# Altium integrated library L1.IntLib: 92 symbols
Pins are listed as number, name and electrical type; pins without a type are passive.

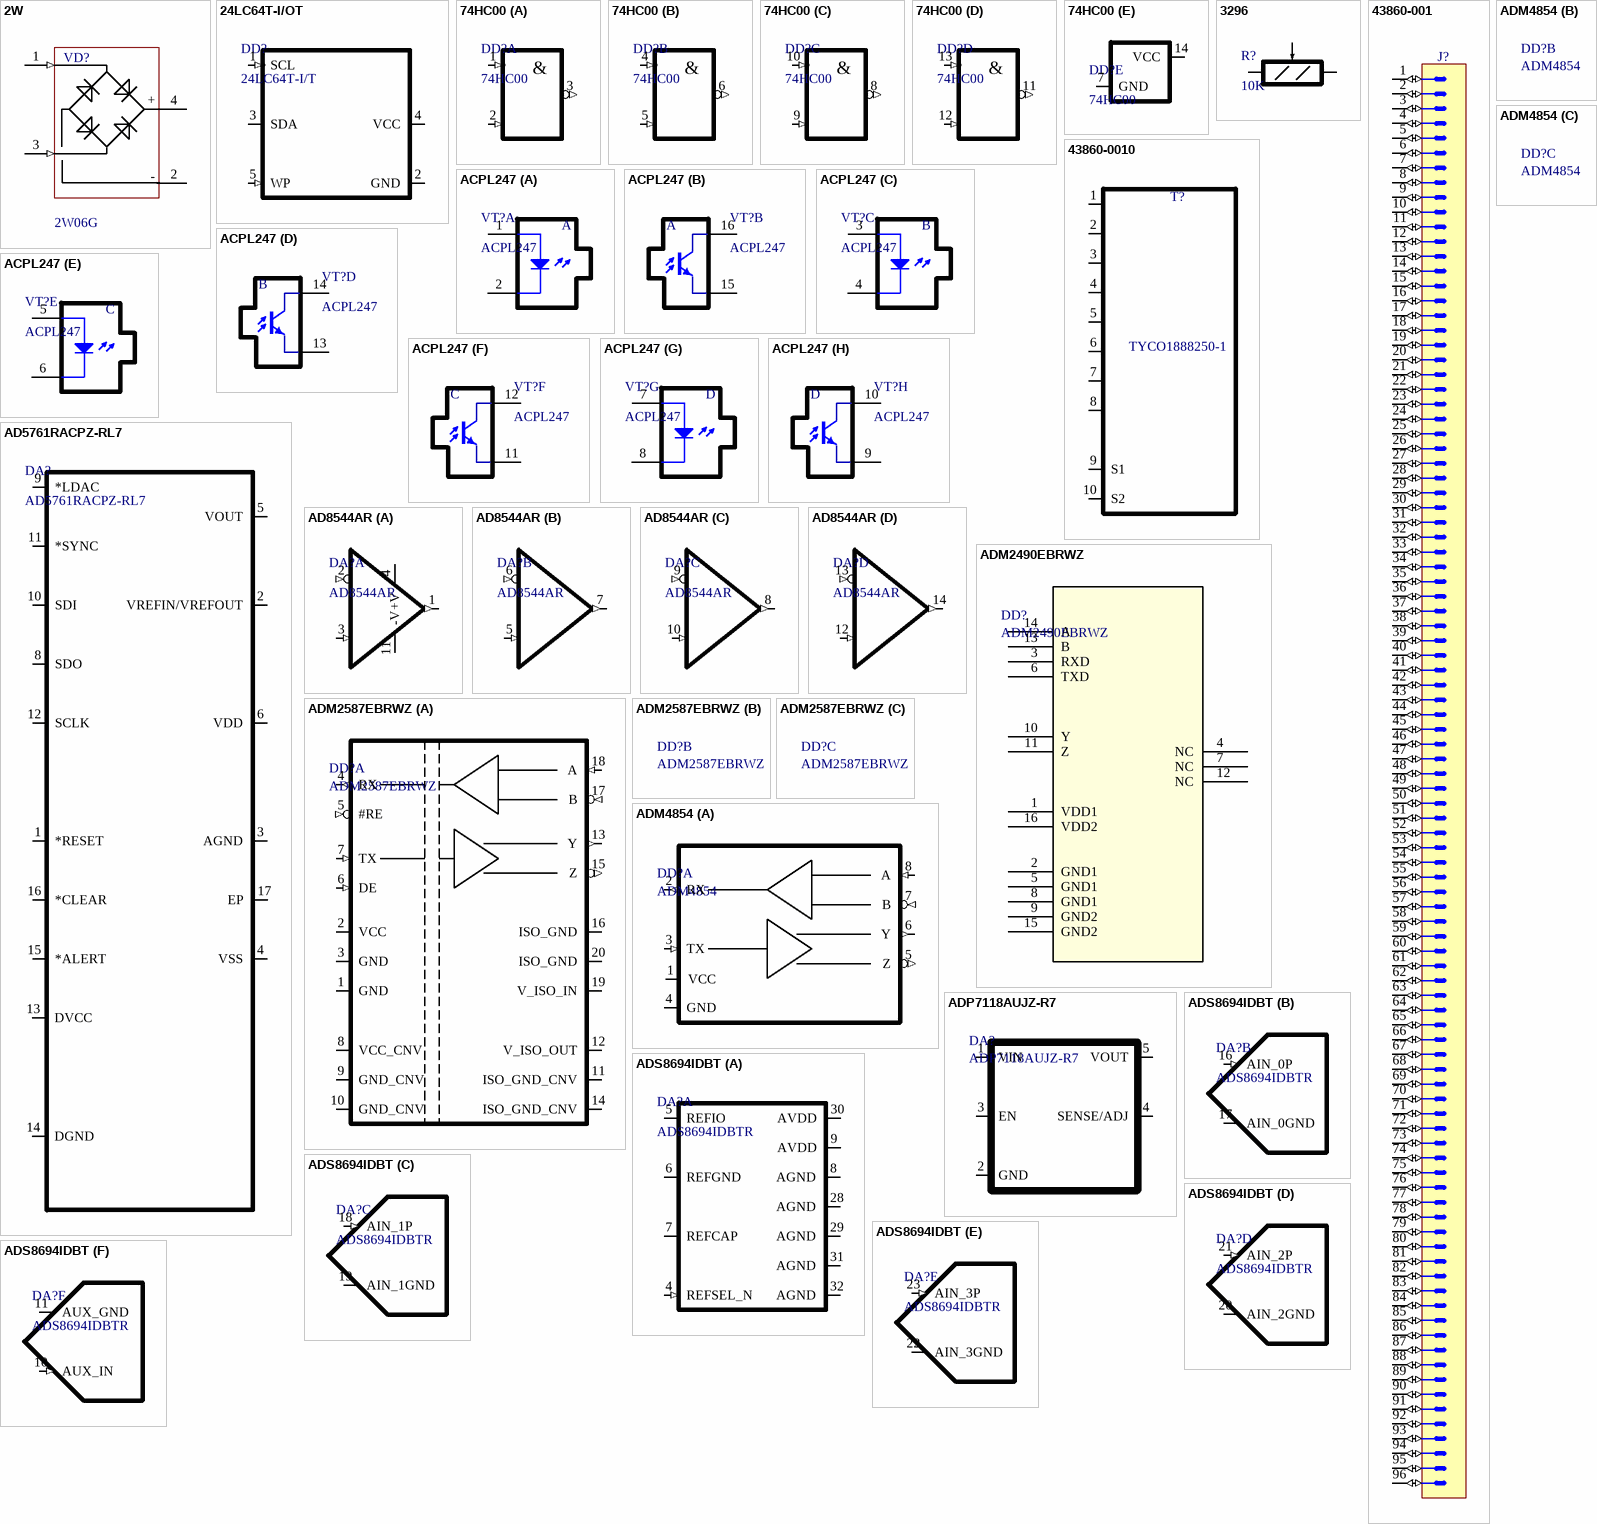
[diagram p0: symbols 2W to ADS8694IDBT]

## 2W
designator VD?, comment 2W06G
2Amp. Bridge Rectifier; Device: 2W; Vendor: Vishay; Value: 06G; Package: Spec DIP4; UnitPrice: 0,2
footprint DIP_4-500 (mmmm pitch 4pin rectifier bridge)
pins: 1 AC (in), 2 - (power), 3 AC (in), 4 + (power)

## 24LC64T-I/OT
designator DD?, comment 24LC64T-I/T
I2C EEPROM 64kbit; Vendor: Microchip; Package: SOT23-5; Unit Price: 1; Device: 24LC64T-I/T
footprint SOT23_5-095 (SOT, 0.95mm pitch; 5 pin, 1.60mm W X 2.90mm L X 1.45mm H body, IPC Medium Density)
pins: 1 SCL (in) "i2c CLK", 2 GND (power), 3 SDA (io) "i2C data", 4 VCC (power) "Digital output", 5 WP (in) "Write protect"

## 74HC00
designator DD?
Quad 2 inverted AND; Vendor: NXP; Package: SOIC14; Unit Price: 0.2; Device: 74HC00
footprint SOIC_14-127 (SOIC 14, Pitch 1.27mm - Body 4x8.75mm, IPC Medium Density)
part A pins: 1 in1 (in) "Digital input", 2 in2 (in) "Input", 3 OUT (out) "Inverted AND output"
part B pins: 4 in1 (in) "Digital input", 5 in2 (in) "Input", 6 OUT (out) "Inverted AND output"
part C pins: 8 OUT (out) "Inverted AND output", 9 in2 (in) "Input", 10 in1 (in) "Digital input"
part D pins: 11 OUT (out) "Inverted AND output", 12 in2 (in) "Input", 13 in1 (in) "Digital input"
part E pins: 7 GND (power), 14 VCC (power)
part A text: &
part B text: &
part C text: &
part D text: &

## 3296
designator R?, comment 10K
Trimm Resistor; Vendor: BOURNS; Unit Price: 0.2; Package: Special Trimm3296; Value: 10K
footprint TRIM_BOURNS_3296Y (Trimming Potentiometer BOURNS 3296Y Series)
pins: 1 "Any pin", 2 "Any pin", 3 "Any pin"

## 43860-001
designator J?
Connector 96 Male
pins: 1 (io), 2 (io), 3 (io), 4 (io), 5 (io), 6 (io), 7 (io), 8 (io), 9 (io), 10 (io), 11 (io), 12 (io), 13 (io), 14 (io), 15 (io), 16 (io), 17 (io), 18 (io), 19 (io), 20 (io), 21 (io), 22 (io), 23 (io), 24 (io), 25 (io), 26 (io), 27 (io), 28 (io), 29 (io), 30 (io), 31 (io), 32 (io), 33 (io), 34 (io), 35 (io), 36 (io), 37 (io), 38 (io), 39 (io), 40 (io), 41 (io), 42 (io), 43 (io), 44 (io), 45 (io), 46 (io), 47 (io), 48 (io), 49 (io), 50 (io), 51 (io), 52 (io), 53 (io), 54 (io), 55 (io), 56 (io), 57 (io), 58 (io), 59 (io), 60 (io), 61 (io), 62 (io), 63 (io), 64 (io), 65 (io), 66 (io), 67 (io), 68 (io), 69 (io), 70 (io), 71 (io), 72 (io), 73 (io), 74 (io), 75 (io), 76 (io), 77 (io), 78 (io), 79 (io), 80 (io), 81 (io), 82 (io), 83 (io), 84 (io), 85 (io), 86 (io), 87 (io), 88 (io), 89 (io), 90 (io), 91 (io), 92 (io), 93 (io), 94 (io), 95 (io), 96 (io)

## 43860-0010
designator T?, comment TYCO1888250-1
RG45 THD Ethernet socket; Vendor: TYCO; Unit Price: 10; Package: Spec  TYCO1888250-1; Device: TYCO1888250-1
footprint TYCO_1888250-1 (1 Port, Yellow/Green LEDs, RJ45 10/100Base-T, Cat 5, Ethernet Connector Module)
pins: 1 (io), 2 (io), 3 (io), 4 (io), 5 (io), 6 (io), 7 (io), 8 (io), 9 S1 (io), 10 S2 (io)

## ACPL247
designator VT?
Quad transistor optocoupler; Vendor: Avago; Package: SOIC16; Unit Price: 2; Device: ACPL247
footprint SOIC_16-127 (SOIC, 1.27mm Pitch; 16 Pin, 5.30mm W X 10.30mm L X 1.90mm H body, IPC Medium Density)
part A pins: 1 A, 2 C
part B pins: 15 E, 16 C
part C pins: 3 A, 4 C
part D pins: 13 E, 14 C
part E pins: 5 A, 6 C
part F pins: 11 E, 12 C
part G pins: 7 A, 8 C
part H pins: 9 E, 10 C
part C text: B
part D text: B
part G text: D
part H text: D

## AD5761RACPZ-RL7
designator DA?
16bit DAC; Vendor: Analog Devices Inc; Unit_Price: 15; Device: AD5761RACPZ-RL7; Package: LFCSP16-0,5
footprint CP_16_22_ADI-M (16-Lead LFCSP - 0.5мм = AD  DJ6)
pins: 1 *RESET, 2 VREFIN/VREFOUT, 3 AGND, 4 VSS, 5 VOUT, 6 VDD, 7 DNC hidden, 8 SDO, 9 *LDAC, 10 SDI, 11 *SYNC, 12 SCLK, 13 DVCC, 14 DGND, 15 *ALERT, 16 *CLEAR, 17 EP

## AD8544AR
designator DA?
Quad rail to rail i&O OpAmp. 2V7-5V 5 Single power supply. MOSFET in. SOIC14 Package; Vendor: Analog Devices Inc; Unit Price: 0.2; Device: AD8544AR; PPackage: SOIC14
footprint SOIC_14-127 (SOIC 14, Pitch 1.27mm - Body 4x8.75mm, IPC Medium Density)
part A pins: 1 OUT (out), 2 -IN (in), 3 +IN (in), 4 +V (power), 11 -V (power)
part B pins: 5 +IN (in), 6 -IN (in), 7 OUT (out)
part C pins: 8 OUT (out), 9 -IN (in), 10 +IN (in)
part D pins: 12 +IN (in), 13 -IN (in), 14 OUT (out)

## ADM2490EBRWZ
designator DD?
Full Duplex RS422 isolated transiver with internad DC/DC convertor; Vendor: Analog Devices Inc; Device: ADM2490EBRWZ; Unit Price: 10; Package: SOICW16
footprint SOICW_16_127_ADI-M
pins: 1 VDD1, 2 GND1, 3 RXD, 4 NC, 5 GND1, 6 TXD, 7 NC, 8 GND1, 9 GND2, 10 Y, 11 Z, 12 NC, 13 B, 14 A, 15 GND2, 16 VDD2

## ADM2587EBRWZ
designator DD?
Full Duplex RS422 isolated transiver with internad DC/DC convertor; Vendor: Analog Devices Inc; Device: ADM2587EBRWZ; Package: SOICW20; Unit Price: 10
footprint SOICW_20-127_ADI-M (1.27mm pitch 20pin = RW16-M(AD))
part A pins: 1 GND (power) "Logic side GND", 2 VCC (power) "Logic side Power 3V or 5V", 3 GND (power) "Logic side GND", 4 RX (out) "Reciver data out", 5 #RE (in) "Reciever enable activ Low", 6 DE (in) "Driver enable", 7 TX (in) "Transmiter input", 8 VCC_CNV (power) "Logic side converter Power 3V .. 5V", 9 GND_CNV (power) "Logic side converter GND", 10 GND_CNV (power) "Logic side converter GND", 11 ISO_GND_CNV (power) "Line GND", 12 V_ISO_OUT (power) "Isolated power output. 10.0uF & 0.1uF to IsoGnd", 13 Y (out) "Driver Noninverting Output", 14 ISO_GND_CNV (power) "Isolated Converter GND", 15 Z (out) "Driver Noninverting Output", 16 ISO_GND (power) "Isolated Line GND", 17 B (in) "Receiver Inverting Input.", 18 A (in) "Receiver Inverting Input.", 19 V_ISO_IN (power) "Isolated Power Supply Input  0.1 uF & 10nF to pin20", 20 ISO_GND (power) "Line GND"
1 alternate drawing of the same symbol

## ADM4854
designator DD?
Full Duplex RS-422 Transceivers; Vendor: Analog Devices Inc; Device: ADM4854; Package: SOIC8; Unit Price: 1
footprint SOIC8 (1.27mm pitch 8pin = D8_TEX-M(ti))
part A pins: 1 VCC (power) "Power 3V or 5V", 2 RX (out) "Reciver data out", 3 TX (in) "Transmiter input", 4 GND (power) "Logic side GND", 5 Z (out) "Driver Noninverting Output", 6 Y (out) "Driver Noninverting Output", 7 B (in) "Receiver Inverting Input.", 8 A (in) "Receiver Inverting Input."
1 alternate drawing of the same symbol

## ADP7118AUJZ-R7
designator DA?
20 V, 200 mA, Low Noise, / CMOS LDO Linear Regulator; Vendor: Analog Devices Inc; Value: 3V3; Device: ADP7118AUJZ-R7; Package: SOT23_5; Unit Price: 4
footprint SOT23_5-0.95AD-M (0mm W X 2.90mm L X 1.45mm H body, IPC Medium Density AD)
pins: 1 VIN, 2 GND, 3 EN, 4 SENSE/ADJ, 5 VOUT

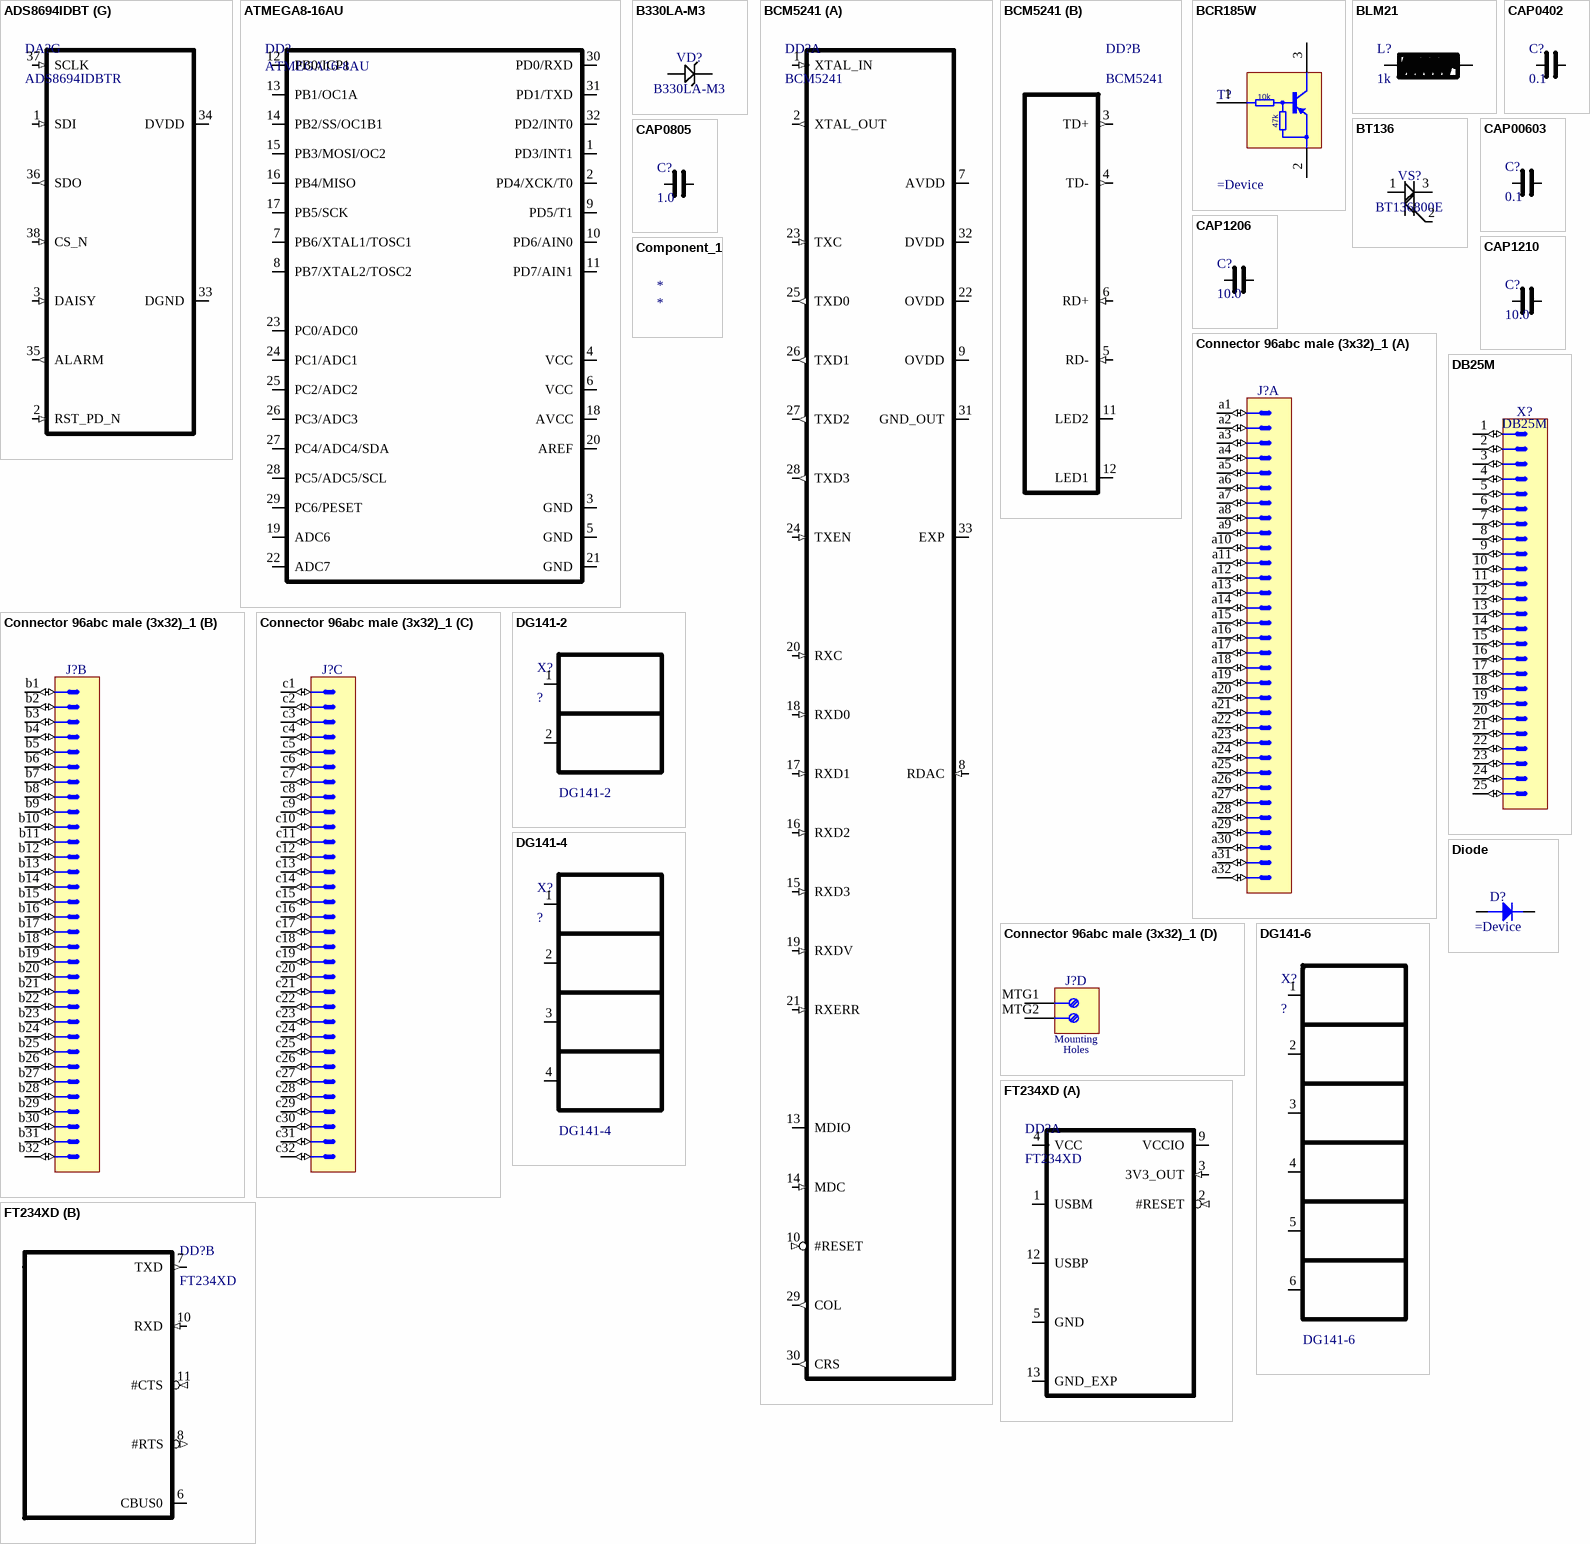
[diagram p1: symbols ADS8694IDBT to FT234XD]

## ADS8694IDBT
designator DA?, comment ADS8694IDBTR
18bit 4ch SAR ADC; Vendor: Texas Instruments; Application_BuildNumber: *; Device: ADS8694IDBTR; Package: TSSOP38-05; Unit Price: 10
footprint TSSOP_38-50 (0.5mm pitch 38pin=DBT0038A_M(ti))
part A pins: 4 REFSEL_N (in), 5 REFIO (io), 6 REFGND (power), 7 REFCAP, 8 AGND (power), 9 AVDD (power), 12 NC hidden, 13 NC hidden, 14 NC hidden, 15 NC hidden, 24 NC hidden, 25 NC hidden, 26 NC hidden, 27 NC hidden, 28 AGND (power), 29 AGND (power), 30 AVDD (power), 31 AGND (power), 32 AGND (power)
part B pins: 16 AIN_0P (in), 17 AIN_0GND (power)
part C pins: 18 AIN_1P (in), 19 AIN_1GND (power)
part D pins: 20 AIN_2GND (power), 21 AIN_2P (in)
part E pins: 22 AIN_3GND (power), 23 AIN_3P (in)
part F pins: 10 AUX_IN (in), 11 AUX_GND (power)
part G pins: 1 SDI (in), 2 RST_PD_N (in), 3 DAISY (in), 33 DGND (power), 34 DVDD (power), 35 ALARM (out), 36 SDO (out), 37 SCLK (in), 38 CS_N (in)

## ATMEGA8-16AU
designator DD?, comment ATMEGA16-8AU
8bit uController; Vendor: Microchip; Package: LQFP32-80; Unit Price: 2; Device: ATMEGA16-8AU
footprint TQFP_32-80 (QFP,0.80mm Pitch, Square; 32 Pin, 7.00mm L X 7.00mm W X 1.20mm H Body, IPC Medium Density)
pins: 1 PD3/INT1, 2 PD4/XCK/T0, 3 GND, 4 VCC, 5 GND, 6 VCC, 7 PB6/XTAL1/TOSC1, 8 PB7/XTAL2/TOSC2, 9 PD5/T1, 10 PD6/AIN0, 11 PD7/AIN1, 12 PB0/ICP1, 13 PB1/OC1A, 14 PB2/SS/OC1B1, 15 PB3/MOSI/OC2, 16 PB4/MISO, 17 PB5/SCK, 18 AVCC, 19 ADC6, 20 AREF, 21 GND, 22 ADC7, 23 PC0/ADC0, 24 PC1/ADC1, 25 PC2/ADC2, 26 PC3/ADC3, 27 PC4/ADC4/SDA, 28 PC5/ADC5/SCL, 29 PC6/PESET, 30 PD0/RXD, 31 PD1/TXD, 32 PD2/INT0

## B330LA-M3
designator VD?
3A 40V Schottky Diode; Vendor: Vishay; Package: DO214; Unit Price: 0.2; Device: B330LA-M3
footprint DO214 (DO-214-AC/SMA  Molded Diode, Body 5.0x2.7mm, IPC Medium Density)
pins: 1 C, 2 A

## BCM5241
designator DD?
MII to Phy Ethernet T100 driver; Vendor: Broadcom; Package: QFN32-50; Unit Price: 2; Device: BCM5241
footprint QFN_33-50 (QFN, (MO-220-VHHD-4) 0.50mm pitch,square; 8 pin X 8 pin, 5mm X 5mm X 1.00mm H body (w/thermal tab 3.3 X 3.3mm),  IPC Medium Density)
part A pins: 1 XTAL_IN (in) "Clock generator in", 2 XTAL_OUT (out) "Clock generator out", 7 AVDD (power) "Analog power", 8 RDAC (in) "Analog power", 9 OVDD (power) "1V8 Power", 10 #RESET (in) "Digital ground", 13 MDIO (io), 14 MDC (in) "M Clock", 15 RXD3 (in) "MII Rx3", 16 RXD2 (in) "MII Rx2", 17 RXD1 (in) "MII Rx1", 18 RXD0 (in) "MII Rx0", 19 RXDV (in) "MII RXDV", 20 RXC (in) "MII RXClk", 21 RXERR (in) "MII RXErr", 22 OVDD (power) "1V8 Power", 23 TXC (in) "MII TXC", 24 TXEN (in) "Enable tx", 25 TXD0 (out) "MII TX0", 26 TXD1 (out) "MII TX1", 27 TXD2 (out) "MII TX2", 28 TXD3 (out) "MII TX3", 29 COL (out), 30 CRS (out), 31 GND_OUT (power) "GND phy", 32 DVDD (power) "DIgital power", 33 EXP (power) "GND Exp"
part B pins: 3 TD+ (out) "Phy  TX+", 4 TD- (out) "Phy TX -", 5 RD- (in) "Phy RD-", 6 RD+ (in) "Phy RD+", 11 LED2 (oc) "LED data exch. indicator", 12 LED1 (oc) "LED link indicator"

## BCR185W
designator T?
PNP Silicon Digital Transistors
pins: 1 B, 2 E, 3 C
text: 10k; 47k

## BLM21
designator L?, comment 1k
SMD Ferrite bead 0805; Device: BLM21; Vendor: Vishay; Unit Price: 0.1; Package: SMD0805; Value: 1k
footprint RESC2012X50N (Chip Resistor, EIA 0805, Metric 2012, Body 2.0x1.25mm, IPC Medium Density)
pins: 1 "Any pin", 2 "Any pin"

## BT136
designator VS?, comment BT136800E
Passivated, sensitive gate triac; Vendor: Phillips; Device: BT136; Value: 800; Package: TO220; Unit Price: 1
footprint TO-220-v (TO-220 3-Terminal - Vertical Mount)
pins: 1 T1 "Main terminal1", 2 T2 "Main terminal2", 3 G "Gate"

## CAP0402
designator C?, comment 0.1
Chip capasitor 0402; Vendor: Vishay; Unit Price: 0.1; Package: SMD0402; Value: 0.1
footprint CAPC1005X55N (Chip Capacitor, Body 1.0x0.55mm, IPC Medium Density)
pins: 1 "Any pin", 2 "Any pin"

## CAP00603
designator C?, comment 0.1
Chip capasitor 0603; Vendor: Vishay; Unit Price: 0.1; Package: 0603; Value: 0.1
footprint CAPC1608X85N (Chip Capacitor, Body 1.6x0.8mm IPC Medium Density)
pins: 1 "Any pin", 2 "Any pin"

## CAP0805
designator C?, comment 1.0
Chip capasitor 0805; Vendor: Vishay; Unit Price: 0.1; Package: SMD0805; Value: 1.0
footprint CAPC2012X135N (Chip Capacitor, Body 2.0x1.25mm, IPC Medium Density)
pins: 1 "Any pin", 2 "Any pin"

## CAP1206
designator C?, comment 10.0
Chip capasitor 1206; Vendor: Vishay; Unit Price: 0.1; Package: SMD1206; Value: 10.0
footprint CAPC3216X152N (Chip Capacitor, Body 3.2x1.6mm, IPC Medium Density)
pins: 1 "Any pin", 2 "Any pin"

## CAP1210
designator C?, comment 10.0
Chip capasitor 1210; Vendor: Vishay; Unit Price: 0.1; Package: SMD1210; Value: 10.0
footprint CAPC3225X168N (Chip Capacitor, Body 3.2x2.5mm, IPC Medium Density)
pins: 1 "Any pin", 2 "Any pin"

## Component_1
designator *

## Connector 96abc male (3x32)_1
designator J?
Connector 96abc male (3x32)
part A pins: a1 (io), a2 (io), a3 (io), a4 (io), a5 (io), a6 (io), a7 (io), a8 (io), a9 (io), a10 (io), a11 (io), a12 (io), a13 (io), a14 (io), a15 (io), a16 (io), a17 (io), a18 (io), a19 (io), a20 (io), a21 (io), a22 (io), a23 (io), a24 (io), a25 (io), a26 (io), a27 (io), a28 (io), a29 (io), a30 (io), a31 (io), a32 (io)
part B pins: b1 (io), b2 (io), b3 (io), b4 (io), b5 (io), b6 (io), b7 (io), b8 (io), b9 (io), b10 (io), b11 (io), b12 (io), b13 (io), b14 (io), b15 (io), b16 (io), b17 (io), b18 (io), b19 (io), b20 (io), b21 (io), b22 (io), b23 (io), b24 (io), b25 (io), b26 (io), b27 (io), b28 (io), b29 (io), b30 (io), b31 (io), b32 (io)
part C pins: c1 (io), c2 (io), c3 (io), c4 (io), c5 (io), c6 (io), c7 (io), c8 (io), c9 (io), c10 (io), c11 (io), c12 (io), c13 (io), c14 (io), c15 (io), c16 (io), c17 (io), c18 (io), c19 (io), c20 (io), c21 (io), c22 (io), c23 (io), c24 (io), c25 (io), c26 (io), c27 (io), c28 (io), c29 (io), c30 (io), c31 (io), c32 (io)
part D pins: MTG1 "Mounting Fixture", MTG2 "Mounting Fixture"
part D text: Mounting; Holes

## DB25M
designator X?
Connector 25 Male; Vendor: TYCO; Device: DB25M; Unit Price: 0,5; Package: DB25M
footprint TYCO_3-1634582-2 (Right Angle 25 Male Contacts D-SUB Connector With Boardlock and 4-40 UNC Screwlocks)
pins: 1 (io), 2 (io), 3 (io), 4 (io), 5 (io), 6 (io), 7 (io), 8 (io), 9 (io), 10 (io), 11 (io), 12 (io), 13 (io), 14 (io), 15 (io), 16 (io), 17 (io), 18 (io), 19 (io), 20 (io), 21 (io), 22 (io), 23 (io), 24 (io), 25 (io)
1 alternate drawing of the same symbol

## DG141-2
designator X?, comment ?  Device: DG141-2
2 pin terminal spring clamp 2.54mm pitch; Vendor: DEGSON; Pckage: DIP- 2.54x5.12; Unit Price: 0.2; Value: ?
footprint DIP_CLEMM_2-254_F (2 pin terminal spring clamp 2.54mm pitch)
pins: 1, 2

## DG141-4
designator X?, comment ?  Device: DG141-4
4 pin terminal spring clamp 2.54mm pitch; Vendor: DEGSON; Pckage: DIP- 2.54x5.12; Unit Price: 0.4; Value: ?
footprint DIP_CLEMM_4-254_F (10Contacts, Pitch 2.54mm - Top Entry, Dual Row, Through Mount Socket)
pins: 1, 2, 3, 4

## DG141-6
designator X?, comment ?  Device: DG141-6
6 pin terminal spring clamp 2.54mm pitch; Vendor: Degson; Pckage: DIP6- 2.54x5.12; Unit Price: 0.6; Value: ?
footprint DIP_CLEMM_6-254_F (6 pin terminal spring clamp 2.54mm pitch)
pins: 1, 2, 3, 4, 5, 6

## Diode
designator D?
Diode
pins: 1 C, 2 A

## FT234XD
designator DD?
USB-UART driver; Vendor: FTDI; Paackage: DFN_12-0.45; Device: FT234XD; Unit Price: 2
footprint DFN_12-045 (0.45mm pitch 12pin)
part A pins: 1 USBM (io) "USB diff IO negativ", 2 #RESET (in) "RESET", 3 3V3_OUT (in) "Power out to Peripheria", 4 VCC (power) "FT234 Power", 5 GND (power) "FT234 GND", 9 VCCIO (power) "UART ifc Power", 12 USBP (io) "USB diff IO positiv", 13 GND_EXP (power) "Chip GND exp pad"
part B pins: 6 CBUS0 (io) "Multifunc pin", 7 TXD (out) "UART TX", 8 #RTS (out) "UART #RTS", 10 RXD (in) "UART RX", 11 #CTS (in) "UART #CTS"

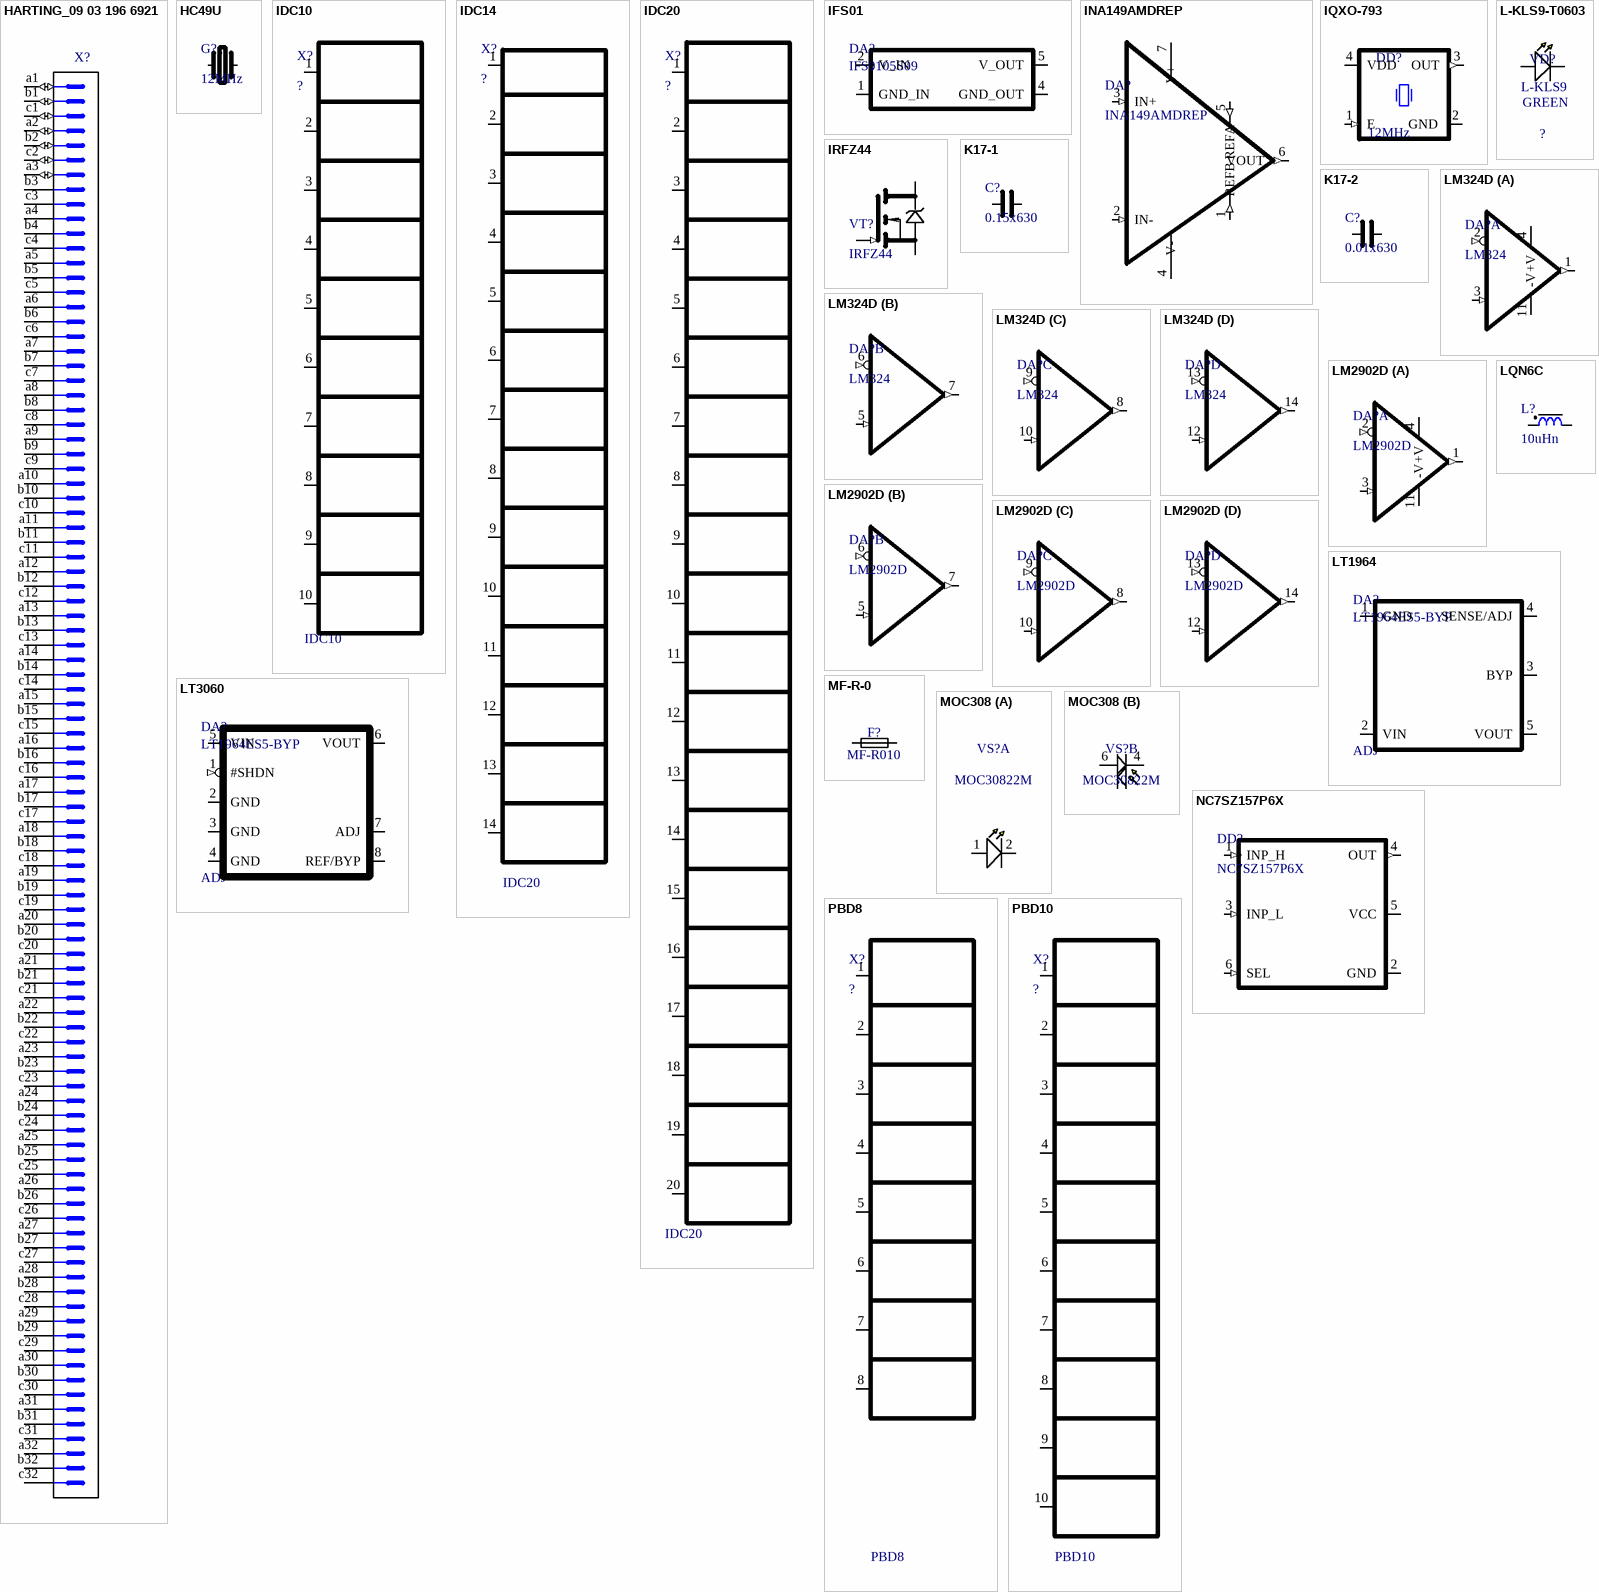
[diagram p2: symbols HARTING_09 03 196 6921 to PBD10]

## HARTING_09 03 196 6921
designator X?  (value not drawn)
Connector 96 Male Right Angle; Vendor: HARTING; Unit Price: 6; Device: HARTING_09 03 196 6921
footprint HARTING_09 03 196 6921 (Connector; DIN 41612, Type C, Thru-Hole; Rows a+b+c, 96 Position; Right Angle)
pins: a1 (io), a2 (io), a3 (io), a4 (power) "Radiator", a5 (power) "Radiator", a6 (power) "Radiator", a7 (power) "Radiator", a8 (power) "Radiator", a9 (power) "Radiator", a10 (power) "Radiator", a11 (power) "Radiator", a12 (power) "Radiator", a13 (power) "Radiator", a14 (power) "Radiator", a15 (power) "Radiator", a16 (power) "Radiator", a17 (power) "Radiator", a18 (power) "Radiator", a19 (power) "Radiator", a20 (power) "Radiator", a21 (power) "Radiator", a22 (power) "Radiator", a23 (power) "Radiator", a24 (power) "Radiator", a25 (power) "Radiator", a26 (power) "Radiator", a27 (power) "Radiator", a28 (power) "Radiator", a29 (power) "Radiator", a30 (power) "Radiator", a31 (power) "Radiator", a32 (power) "Radiator", b1 (io), b2 5 (io), b3 (power) "Radiator", b4 (power) "Radiator", b5 (power) "Radiator", b6 (power) "Radiator", b7 (power) "Radiator", b8 (power) "Radiator", b9 (power) "Radiator", b10 (power) "Radiator", b11 (power) "Radiator", b12 (power) "Radiator", b13 (power) "Radiator", b14 (power) "Radiator", b15 (power) "Radiator", b16 (power) "Radiator", b17 (power) "Radiator", b18 (power) "Radiator", b19 (power) "Radiator", b20 (power) "Radiator", b21 (power) "Radiator", b22 (power) "Radiator", b23 (power) "Radiator", b24 (power) "Radiator", b25 (power) "Radiator", b26 (power) "Radiator", b27 (power) "Radiator", b28 (power) "Radiator", b29 (power) "Radiator", b30 (power) "Radiator", b31 (power) "Radiator", b32 (power) "Radiator", c1 (io), c2 (io), c3 (power) "Radiator", c4 (power) "Radiator", c5 (power) "Radiator", c6 (power) "Radiator", c7 (power) "Radiator", c8 (power) "Radiator", c9 (power) "Radiator", c10 (power) "Radiator", c11 (power) "Radiator", c12 (power) "Radiator", c13 (power) "Radiator", c14 (power) "Radiator", c15 (power) "Radiator", c16 (power) "Radiator", c17 (power) "Radiator", c18 (power) "Radiator", c19 (power) "Radiator", c20 (power) "Radiator", c21 (power) "Radiator", c22 (power) "Radiator", c23 (power) "Radiator", c24 (power) "Radiator", c25 (power) "Radiator", c26 (power) "Radiator", c27 (power) "Radiator", c28 (power) "Radiator", c29 (power) "Radiator", c30 (power) "Radiator", c31 (power) "Radiator", c32 (power) "Radiator"

## HC49U
designator G?, comment 12MHz
Quartz resonator; Vendor: Vishay; Unit Price: 0.5; Package: XTAL-HC49; Value: 12MHz
footprint XTAL_HC-49/U (HC-49/U Leaded Cristal, Body 11.05x4.8mm; Pitch 4.88mm)
pins: 1 "Any pin", 2 "Any pin"

## IDC10
designator X?, comment ?  Device: IDC10
10 pin TRH connector 2.54mm pitch; Vendor: Connfly; Pckage: DIP10 - 2.54; Unit Price: 0.2; Value: ?
footprint DIP_10-254
pins: 1, 2, 3, 4, 5, 6, 7, 8, 9, 10

## IDC14
designator X?, comment ?  Device: IDC20
14 pin TRH connector 2.54mm pitch; Vendor: Connfly; Pckage: DIP20 - 2.54; Unit Price: 0.2; Value: ?
footprint DIP_14-254 (2.54mm pitch 14pin M connnector)
pins: 1, 2, 3, 4, 5, 6, 7, 8, 9, 10, 11, 12, 13, 14

## IDC20
designator X?, comment ?  Device: IDC20
20 pin TRH connector 2.54mm pitch; Vendor: Connfly; Pckage: DIP20 - 2.54; Unit Price: 0.2; Value: ?
footprint DIP_20-254
pins: 1, 2, 3, 4, 5, 6, 7, 8, 9, 10, 11, 12, 13, 14, 15, 16, 17, 18, 19, 20

## IFS01
designator DA?, comment IFS0105S09
DC/DC convertor Vin4.4..5V5 to Single V out; Vendor: XP POWER; Device: IFS01; Value: 05S09; Unit Price: 8; Package: SOIC8-254
footprint SOIC_8-254 (2.54mm pitch 8pin)
pins: 1 GND_IN (power) "Ground in", 2 V_IN (power) "Ground in", 4 GND_OUT (power) "Ground out", 5 V_OUT (power) "Vout"

## INA149AMDREP
designator DA?
High CM Voltage instrumental amplifier; Vendor: Texas Instruments; Device: INA149AMDREP; Unit Price: 8; Package: SOIC8
footprint SOIC8 (1.27mm pitch 8pin = D8_TEX-M(ti))
pins: 1 REFB (in), 2 IN- (in), 3 IN+ (in), 4 V- (power), 5 REFA (in), 6 VOUT (out), 7 V+ (power), 8 NC hidden

## IQXO-793
designator DD?, comment 12MHz
Oscillator 4 pins 1=E/D 2=GND 3=OUT 4=VDD; Vendor: IQD; Package: SO 4 1.7; Unit Price: 3; Value: 12MHz
footprint SO_4-1.7
pins: 1 E (in), 2 GND (power), 3 OUT (out), 4 VDD (power)

## IRFZ44
designator VT?
Adjustable voltage reference; Vendor: International Rectifier; Package: TO220; Unit Price: 1; Device: IRFZ44
pins: 1 G (in) "Gate", 2 D "Dra", 3 S "Source"

## K17-1
designator C?, comment 0.15x630
polymer capacitor; Vendor: Vishay; Device: K17-1; Unit Price: 0.3; Package: spec; Value: 0.15x630
footprint CAPR3750-1700X4150X2900 (Capacitor Radial, Pin spacing 37.5mm - Body Width 17mm X Body Length 41.5mm X Body Height 29mm)
pins: 1 "Any pin", 2 "Any pin"

## K17-2
designator C?, comment 0.01x630
Polymer capacitor; Vendor: Vishay; Device: K17-2; Unit Price: 0.3; Package: spec; Value: 0.01x630
footprint CAPR2750-1100X3150X2100 (Capacitor Radial, Pin spacing 27.5mm - Body With 11mm X Body Length 31.5mm X Body Height 21mm)
pins: 1 "Any pin", 2 "Any pin"

## L-KLS9-T0603
designator VD?, comment ?  Color: GREEN  Device: L-KLS9
Chip LED SMD 0603; Vendor: NINGBO KLS ELECTRONIC CO LTD; Value: ?; Package: SMD0603; Unit Price: 0.1
footprint LED0603 (Chip LED 0603, Body 2.25x1mm)
pins: 1 C, 2 A

## LM324D
designator DA?, comment LM324
Quad OpAmp; Vendor: STM; PPackage: SOIC14; Unit Price: 0.2; Device: LM324
footprint SOIC_14-127 (SOIC 14, Pitch 1.27mm - Body 4x8.75mm, IPC Medium Density)
part A pins: 1 OUT (out), 2 -IN (in), 3 +IN (in), 4 +V (power), 11 -V (power)
part B pins: 5 +IN (in), 6 -IN (in), 7 OUT (out)
part C pins: 8 OUT (out), 9 -IN (in), 10 +IN (in)
part D pins: 12 +IN (in), 13 -IN (in), 14 OUT (out)

## LM2902D
designator DA?
Quad OpAmp; Vendor: STM; PPackage: SOIC14; Unit Price: 0.2; Device: LM2902D
footprint SOIC_14-127 (SOIC 14, Pitch 1.27mm - Body 4x8.75mm, IPC Medium Density)
part A pins: 1 OUT (out), 2 -IN (in), 3 +IN (in), 4 +V (power), 11 -V (power)
part B pins: 5 +IN (in), 6 -IN (in), 7 OUT (out)
part C pins: 8 OUT (out), 9 -IN (in), 10 +IN (in)
part D pins: 12 +IN (in), 13 -IN (in), 14 OUT (out)

## LQN6C
designator L?, comment 10uHn
Chip capasitor 1210; Vendor: Epcos; Unit Price: 1; Package: SMD2220; Value: 10uHn
footprint SMD2220 (SMD Choke Coil, Body 6.9x6.5mm)
pins: 1, 2

## LT1964
designator DA?, comment LT1964ES5-BYP  value ADJ
Negative LDO Linear stabilizer; Vendor: Analog Devices Inc; Device: LT1964ES5-BYP; Type: DEV; Package: SOT23_5; Unit Price: 4
footprint SOT23_5-0.95AD-M (0mm W X 2.90mm L X 1.45mm H body, IPC Medium Density AD)
pins: 1 GND (power), 2 VIN (power) "Power in -1.22..-20V 1.0 uF to GND", 3 BYP "Bypass capacitor 10nF to VOUT", 4 SENSE/ADJ, 5 VOUT (power) "10.0uF to  GND"

## LT3060
designator DA?, comment LT1964ES5-BYP  value ADJ
Positive LDO Linear stabilizer; Vendor: Analog Devices Inc; Device: LT1964ES5-BYP; Type: DEV; Package: SOT23_5; Unit Price: 4
footprint TSOT_8-65 (SOT, 0.65mm pitch; 8 pin, 1.625mm W X 2.90mm L X 1.00mm H body, IPC Medium Density)
pins: 1 #SHDN (in) "Shutdown, to normal operate connect to VIN", 2 GND (power), 3 GND (power), 4 GND (power), 5 VIN (power) "Power in 1.6.. 45V 1uF toGND", 6 VOUT (power) "2u2 minimum to GND", 7 ADJ "10nF to VOUT 600mV ADJ ref", 8 REF/BYP "Bypass capacitor 10nF to GND"

## MF-R-0
designator F?, comment MF-R010
Fuse; Vendor: Bourns; Paccage: SIP_2-508; Device: MF-R0; Value: 10; Unit Price: 0,3
footprint MF-R-508 (PTC Resettable Fuse, MF-R Series, Case style 4)
pins: 1, 2

## MOC308
designator VS?, comment MOC30822M
Zero-cross optoisolators triac driver output; Vendor: Phillips; Value: 2; Package: DIP6; Unit Price: 0.5; Device: MOC3082
footprint DIP6-254 (DIP 6 Leads, Row Spacing 7.62 mm; Pitch 2.54 mm)
part A pins: 1 A "Anode", 2 C "Cathode"
part B pins: 4 T1 "Main terminal1", 6 T2 "Main terminal1"

## NC7SZ157P6X
designator DD?
Digital multiplexer 2 to 1; Vendor: ON Semi; Package: SOT70-6; Unit Price: 0.2; Device: NC7SZ157P6X
footprint SC70_6-065 (SOT363, 0.65mm pitch; 6 pin, 1.25mm W X 2mm L, IPC Medium Density)
pins: 1 INP_H (in) "Digital input when select == H", 2 GND (power), 3 INP_L (in) "Digital input when select ==L", 4 OUT (out) "Digital output", 5 VCC (power), 6 SEL (in) "Select input"

## PBD8
designator X?, comment ?  Device: PBD8
8 pin TRH socket 2.54mm pitch; Vendor: Connfly; Pckage: DIP8- 2.54; Unit Price: 0.2; Value: ?
footprint DIP_8-254_F (10Contacts, Pitch 2.54mm - Top Entry, Dual Row, Through Mount Socket)
pins: 1, 2, 3, 4, 5, 6, 7, 8

## PBD10
designator X?, comment ?  Device: PBD10
10 pin TRH socket 2.54mm pitch; Vendor: Connfly; Pckage: DIP10- 2.54; Unit Price: 0.2; Value: ?
footprint DIP_10-254_F (10Contacts, Pitch 2.54mm - Top Entry, Dual Row, Through Mount Socket)
pins: 1, 2, 3, 4, 5, 6, 7, 8, 9, 10

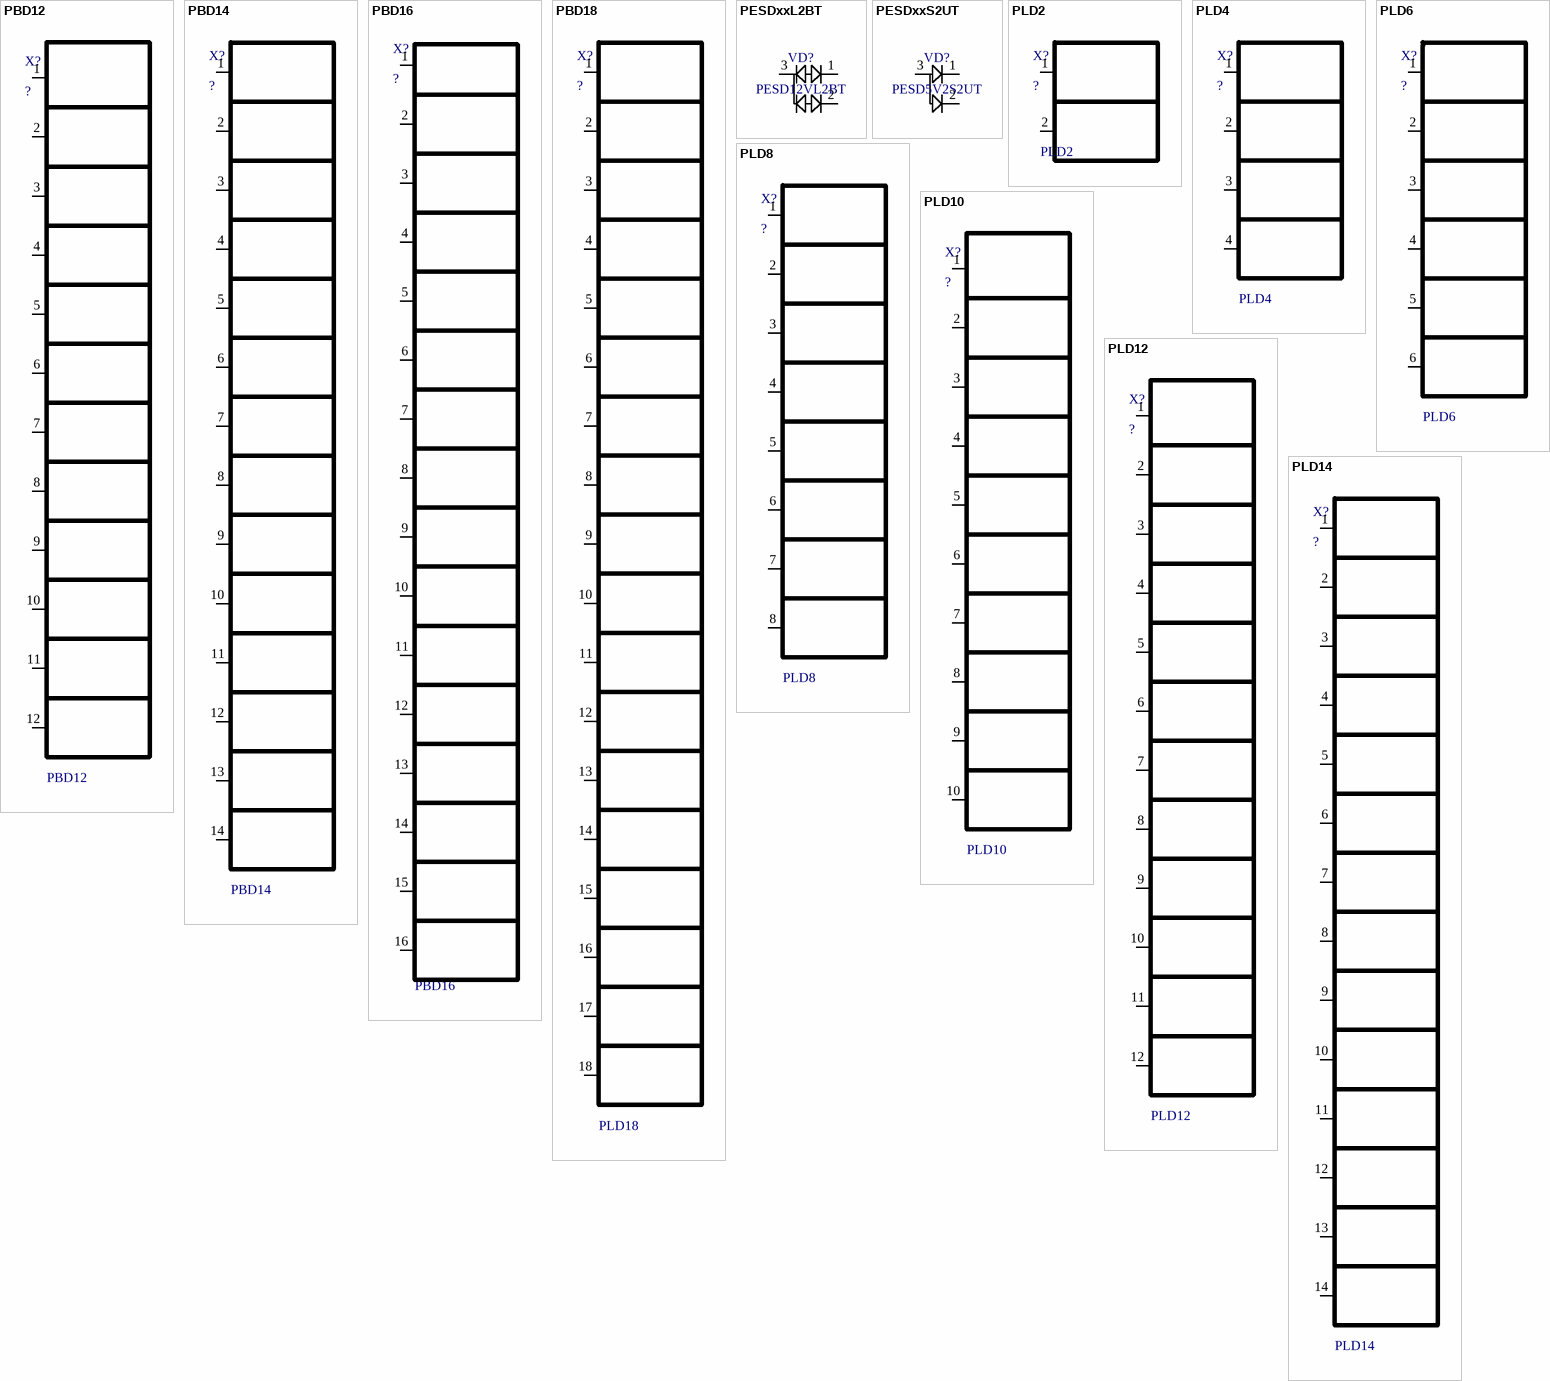
[diagram p3: symbols PBD12 to PLD14]

## PBD12
designator X?, comment ?  Device: PBD12
12 pin TRH connector 2.54mm pitch; Vendor: Connfly; Pckage: DIP12- 2.54; Unit Price: 0.2; Value: ?
footprint DIP_12-254_F (12Contacts, Pitch 2.54mm - Top Entry, Dual Row, Through Mount Socket)
pins: 1, 2, 3, 4, 5, 6, 7, 8, 9, 10, 11, 12

## PBD14
designator X?, comment ?  Device: PBD14
14 pin TRH socket 2.54mm pitch; Vendor: Connfly; Pckage: DIP14- 2.54; Unit Price: 0.2; Value: ?
footprint DIP_14-254_F (2.54mm pitch 14pin F connnector)
pins: 1, 2, 3, 4, 5, 6, 7, 8, 9, 10, 11, 12, 13, 14

## PBD16
designator X?, comment ?  Devise: PBD16
16 pin TRH socket 2.54mm pitch; Vendor: Connfly; Pckage: DIP16- 2.54; Unit Price: 0.2; Value: ?
footprint DIP_16-254_F (16Contacts, Pitch 2.54mm - Top Entry, Dual Row, Through Mount Socket)
pins: 1, 2, 3, 4, 5, 6, 7, 8, 9, 10, 11, 12, 13, 14, 15, 16

## PBD18
designator X?, comment ?  Device: PLD18
18 pin TRH socket -2.54mm pitch; Vendor: Connfly; Pckage: DIP18- 2.54; Unit Price: 0.2; Value: ?
footprint DIP_18-254_F (18Contacts, Pitch 2.54mm - Top Entry, Dual Row, Through Mount Socket)
pins: 1, 2, 3, 4, 5, 6, 7, 8, 9, 10, 11, 12, 13, 14, 15, 16, 17, 18

## PESDxxL2BT
designator VD?, comment PESD12VL2BT
Low capacitance double bidirectional ESD protection diodes in SOT23; Vendor: NXP; Device: PESD; Value: 12V; Package: SOT23; Unit Price: 0.5
footprint SO23-95 (SOT23, 0.95mm, pitch;3 pin,1.55mm W X 2.95mm L X 1.15mm H body, IPC Medium Density)
pins: 1 C1, 2 C2, 3 CAT_COM

## PESDxxS2UT
designator VD?, comment PESD5V2S2UT
Low capacitance double  ESD protection diodes in SOT23; Vendor: NXP; Device: PESD; Value: 5V2; Package: SOT23; Unit Price: 0.5
footprint SO23-95 (SOT23, 0.95mm, pitch;3 pin,1.55mm W X 2.95mm L X 1.15mm H body, IPC Medium Density)
pins: 1 C1, 2 C2, 3 CAT_COM

## PLD2
designator X?, comment ?  Device: PLD2
2 pin TRH connector 2.54mm pitch; Vendor: Connfly; Pckage: DIP2- 2.54; Unit Price: 0.2; Value: ?
footprint DIP_2-254_WO_CASE (2.54mm pitch 2pin M connnector)
pins: 1, 2
1 alternate drawing of the same symbol

## PLD4
designator X?, comment ?  Device: PLD4
4 pin TRH connector 2.54mm pitch; Vendor: Connfly; Pckage: DIP4- 2.54; Unit Price: 0.2; Value: ?
footprint DIP_4-254_WO_CASE (2.54mm pitch 4pin M connnector)
pins: 1, 2, 3, 4

## PLD6
designator X?, comment ?  Device: PLD6
6 pin TRH connector 2.54mm pitch; Vendor: Connfly; Pckage: DIP6- 2.54; Unit Price: 0.2; Value: ?
footprint DIP_6-254_WO_CASE (2.54mm pitch 6pin M connnector)
pins: 1, 2, 3, 4, 5, 6

## PLD8
designator X?, comment ?  Device: PLD8
8 pin TRH connector 2.54mm pitch; Vendor: Connfly; Pckage: DIP8- 2.54; Unit Price: 0.2; Value: ?
footprint DIP_8-254_WO_CASE (2.54mm pitch 8pin M connnector)
pins: 1, 2, 3, 4, 5, 6, 7, 8

## PLD10
designator X?, comment ?  Device: PLD10
10 pin TRH connector 2.54mm pitch; Vendor: Connfly; Pckage: DIP10- 2.54; Unit Price: 0.2; Value: ?
footprint DIP_10-254_WO_CASE (2.54mm pitch 10pin M connnector)
pins: 1, 2, 3, 4, 5, 6, 7, 8, 9, 10

## PLD12
designator X?, comment ?  Device: PLD12
12 pin TRH connector 2.54mm pitch; Vendor: Connfly; Pckage: DIP12- 2.54; Unit Price: 0.2; Value: ?
footprint DIP_12-254_WO_CASE (2.54mm pitch 12pin M connnector)
pins: 1, 2, 3, 4, 5, 6, 7, 8, 9, 10, 11, 12

## PLD14
designator X?, comment ?  Device: PLD14
14 pin TRH connector 2.54mm pitch; Vendor: Connfly; Pckage: DIP14- 2.54; Unit Price: 0.2; Value: ?
footprint DIP_14-254_WO_CASE (2.54mm pitch 14pin M connnector)
pins: 1, 2, 3, 4, 5, 6, 7, 8, 9, 10, 11, 12, 13, 14

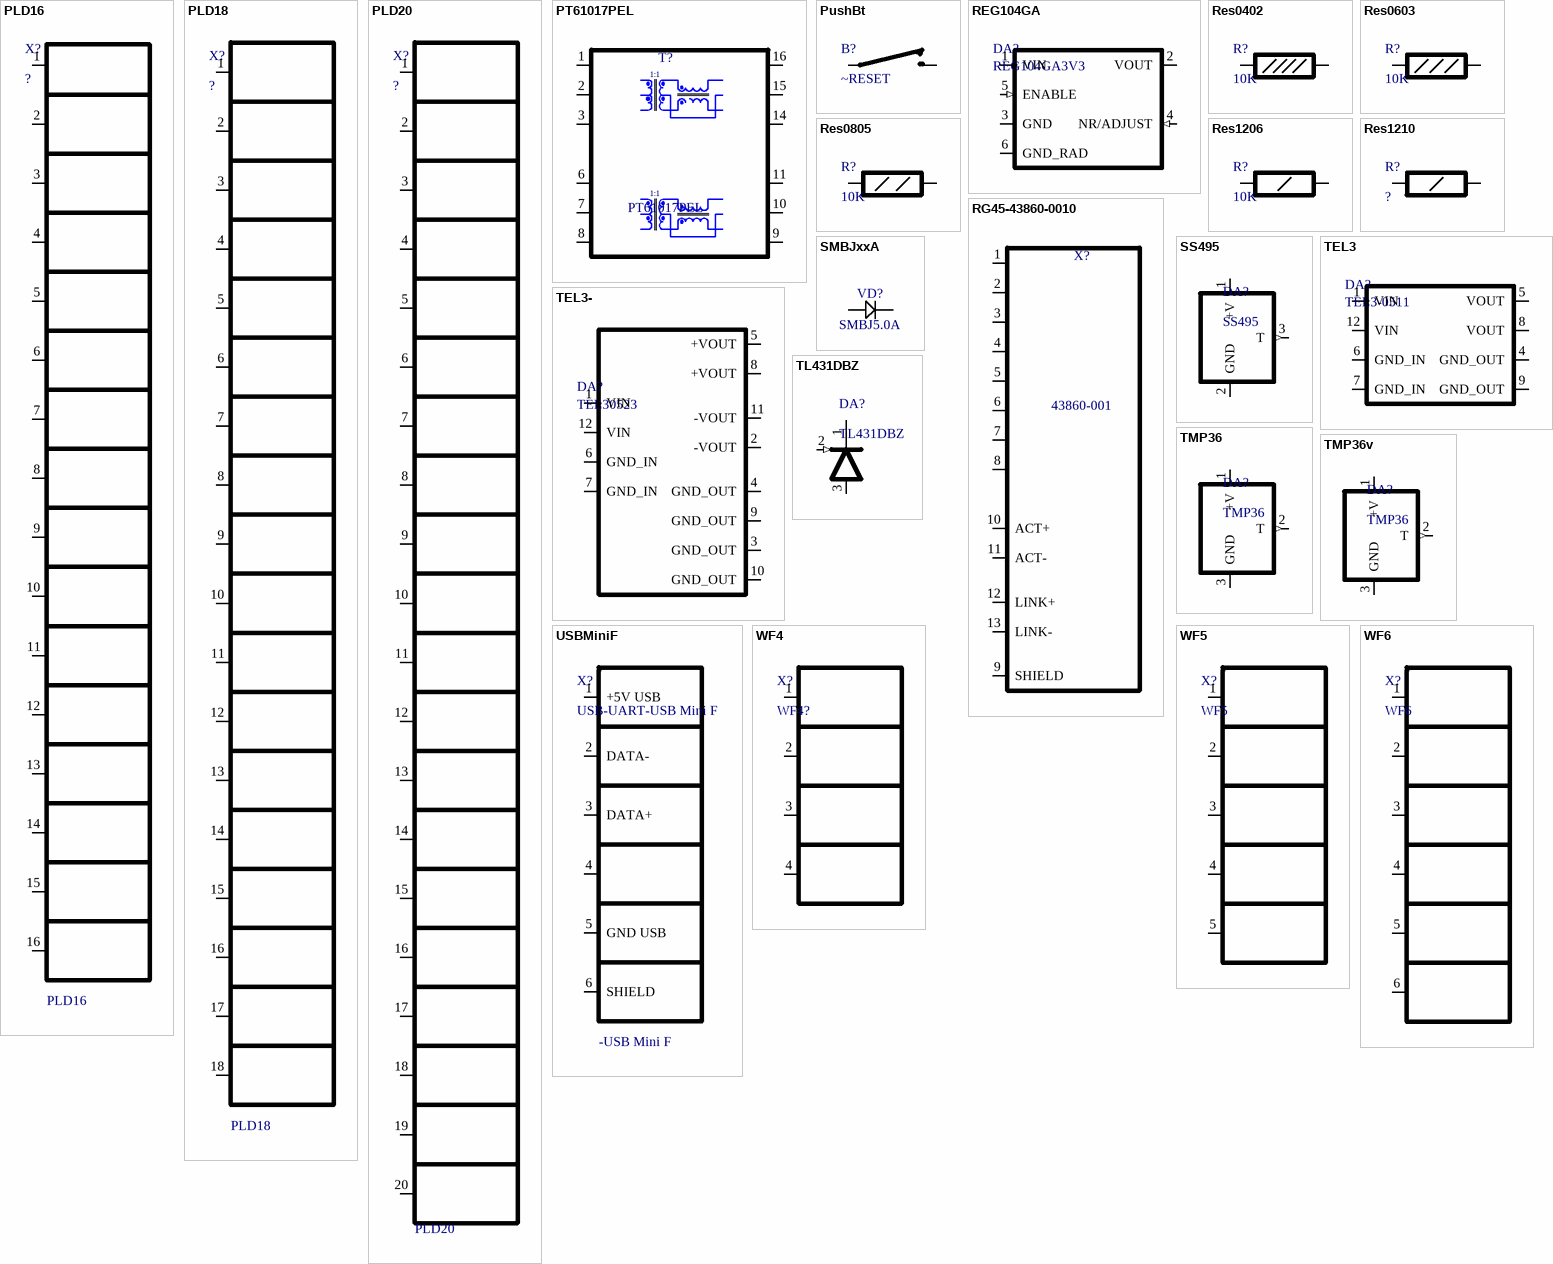
[diagram p4: symbols PLD16 to WF6]

## PLD16
designator X?, comment ?  Devise: PLD16
16 pin TRH connector 2.54mm pitch; Vendor: Connfly; Pckage: DIP16- 2.54; Unit Price: 0.2; Value: ?
footprint DIP_16-254_WO_CASE (2.54mm pitch 16pin M connnector)
pins: 1, 2, 3, 4, 5, 6, 7, 8, 9, 10, 11, 12, 13, 14, 15, 16

## PLD18
designator X?, comment ?  Device: PLD18
18 pin TRH connector 2.54mm pitch; Vendor: Connfly; Pckage: DIP18- 2.54; Unit Price: 0.2; Value: ?
footprint DIP_18-254_WO_CASE (2.54mm pitch 18pin M connnector)
pins: 1, 2, 3, 4, 5, 6, 7, 8, 9, 10, 11, 12, 13, 14, 15, 16, 17, 18

## PLD20
designator X?, comment ?  Device: PLD20
20 pin TRH connector 2.54mm pitch; Vendor: Connfly; Pckage: DIP20 - 2.54; Unit Price: 0.2; Value: ?
footprint DIP_20-254_WO_CASE (2.54mm pitch 20pin M connnector)
pins: 1, 2, 3, 4, 5, 6, 7, 8, 9, 10, 11, 12, 13, 14, 15, 16, 17, 18, 19, 20

## PT61017PEL
designator T?
10/100BASE-T Single Port LAN Transformer Module
footprint SOIC16-W- (10/100/1000 Base-Tx  LAN Transformer, Body 7.11 x 12.95mm)
pins: 1 i1-1, 2 i2-2, 3 i3-3, 4 NC (io) hidden, 5 NC (io) hidden, 6 i2-1, 7 i2-2, 8 i2-3, 9 o2-3, 10 o2-2, 11 o2-1, 12 NC (io) hidden, 13 NC (io) hidden, 14 o1-3, 15 o1-2, 16 o1-1
text: 1:1

## PushBt
designator B?, comment ~RESET
Push button wo latch; Vendor: Vishay; Unit Price: 0.1; Package: DIP4-450; Value: ~RESET
footprint DIP_4-450_PB_OMRON_B3F-1070 (6x6mm Model, Horizontal, Flat Plunger Type (without Ground Terminal) Pushbutton Switch, OMRON B3F Series)
pins: 1 "Any pin", 2 "Any pin"

## REG104GA
designator DA?, comment REG104GA3V3
Positive LDO Linear stabilizer; Vendor: Texas Instruments; Value: 3V3; Device: REG104GA; Unit Price: 6; Package: SOT223-6
footprint SOT223_6-127 (1.27mm pitch 20pin = DCQ6-M(ti))
pins: 1 VIN (power) "Vin 2.1,,16V", 2 VOUT (power) "Vout", 3 GND (power) "Groung", 4 NR/ADJUST (in), 5 ENABLE (in) "Enable  activ H", 6 GND_RAD (power) "Radiator"

## Res0402
designator R?, comment 10K
Chip resistor 0402; Descr: Chip resistor 00402; Group: Passive; Vendor: Vishy; Unit Price: 0.005; Package: SMD0402; Value: 10K
footprint RESC1005X40N (Chip Resistor, EIA 0402, Metric 1005, Body 1.0x0.5mm, IPC Medium Density)
pins: 1 "Any pin", 2 "Any pin"

## Res0603
designator R?, comment 10K
Chip resistor 0603; Group: Passive; Vendor: Vishay; Unit Price: 0.005; Descr: Chip resistor 0603; Package: SMD0603; Value: 10K
footprint RESC1608X50N (Chip Resistor, EIA 0603, Metric 1608, Body 1.6x0.8mm, IPC Medium Density)
pins: 1 "Any pin", 2 "Any pin"

## Res0805
designator R?, comment 10K
Chip resistor 0805; Vendor: Vishay; Unit Price: 0.005; Package: SMD0805; Value: 10K
footprint RESC2012X50N (Chip Resistor, EIA 0805, Metric 2012, Body 2.0x1.25mm, IPC Medium Density)
pins: 1 "Any pin", 2 "Any pin"

## Res1206
designator R?, comment 10K
Chip resistor 1206; Vendor: Vishay; Unit Price: 0.005; Package: SMD1206; Value: 10K
footprint RESC3216X65N (Chip Resistor, EIA 1206, Metric 3216, Body 3.2x1.6mm, IPC Medium Density)
pins: 1 "Any pin", 2 "Any pin"

## Res1210
designator R?, comment ?
Chip resistor 1210; Group: Passive; Vendor: Vishay; Unit Price: 0.005; Descr: Chip resistor 1210; Package: SMD1210; Value: ?
footprint RESC3225X70N (Chip Resistor, EIA 1210, Metric 3225, Body 3.2x2.5mm, IPC Medium Density)
pins: 1 "Any pin", 2 "Any pin"

## RG45-43860-0010
designator X?, comment 43860-001
RG45 THD Ethernet socket; Vendor: MOLEX; Unit Price: 3; Package: Spec  43860-001; Device: 43860-001
footprint 43860-0010 (1 Port, Yellow/Green LEDs, RJ45 10/100Base-T, Cat 5, Ethernet Connector Module)
pins: 1 TX+ (io), 2 TX- (io), 3 RX+ (io), 4 CTT (io), 5 CTR (io), 6 RD- (io), 7 NC (io), 8 CG (io), 9 SHIELD (io), 10 ACT+ (io), 11 ACT- (io), 12 LINK+ (io), 13 LINK- (io)

## SMBJxxA
designator VD?, comment SMBJ5.0A
TVS surface mount diode; Vendor: Littelfuse; Device: SMBJ; Value: 5.0; Package: DO214; Unit Price: 1
footprint DO214 (DO-214-AC/SMA  Molded Diode, Body 5.0x2.7mm, IPC Medium Density)
pins: 1 C, 2 A

## SS495
designator DA?
+- 650Gauss Bidirectional Hall sensor , 3mV/G sensitivity; Vendor: Honeywell; Package: TO92-H-spec1; Unit Price: 3; Device: SS495
footprint TO92H_3-127L - spec1 (TO92Horisontal)
pins: 1 +V (power) "Power supply 4V5.. 10V5", 2 GND (power) "Ground", 3 T (out) "MagneticField/G/ = mV/3.15"

## TEL3
designator DA?, comment TEL3-0511
DC/DC convertor Vin to Single V out; Vendor: TRACO POWER; Device: TEL3; Value: -0511; Unit Price: 30; Package: DIP12Spec
footprint DIP_12_254_Spec0 (2.54mm pitch 12pin special case for TRACO DC/DC)
pins: 1 VIN (power) "Vin4.5-9V", 2 NC (power) hidden, 3 NC (power) hidden, 4 GND_OUT (power) "Radiator", 5 VOUT (power) "Vout", 6 GND_IN (power) "Ground in", 7 GND_IN (power) "Groung", 8 VOUT (power) "Vout", 9 GND_OUT (power) "Ground out", 10 NC (power) hidden, 11 NC (power) hidden, 12 VIN (power) "Vin4.5-9V"

## TEL3-
designator DA?, comment TEL30523
DC/DC convertor Vin to Dual +&- V out; Vendor: TRACO POWER; Device: TEL3; Value: 0523; Unit Price: 30; Package: DIP12Spec
footprint DIP_12_254_Spec0 (2.54mm pitch 12pin special case for TRACO DC/DC)
pins: 1 VIN (power) "Vin4.5-9V", 2 -VOUT (power) "-Vout", 3 GND_OUT (power) "Radiator", 4 GND_OUT (power) "Radiator", 5 +VOUT (power) "Vout", 6 GND_IN (power) "Ground in", 7 GND_IN (power) "Groung", 8 +VOUT (power) "Vout", 9 GND_OUT (power) "Ground out", 10 GND_OUT (power) "Radiator", 11 -VOUT (power) "-Vout", 12 VIN (power) "Vin4.5-9V"

## TL431DBZ
designator DA?
Adjustable voltage reference; Vendor: TI; Package: SOT23; Unit Price: 1; Device: TL431DBZ
footprint SOT23-95 (SOT23, 0.95mm, pitch;3 pin,1.55mm W X 2.95mm L X 1.15mm H body, IPC Medium Density)
pins: 1 C "Catode", 2 Ref (in) "Reference 2V495", 3 A "Anode"

## TMP36
designator DA?
10mV / C Temperature sensor; Vendor: AD; Package: TO92-H; Unit Price: 1; Device: TMP36
footprint TO92H_3-127L (TO92Horisontal)
pins: 1 +V (power) "Power supply 2V7.. 5V5", 2 T (out) "Temperture/C/ = (V - 0.5V)*100", 3 GND (power) "Ground"

## TMP36v
designator DA?, comment TMP36
10mV / C Temperature sensor; Vendor: Analog Devices inc.; Package: TO92-V; Unit Price: 1; Device: TMP36
footprint TO-92AA-P127 (TO-92 (TO-226),  Pitch 1.27mm, Flat Index, 3 In-Line, Axial Leads, Body Dia. 5.3mm, Leads Dia. 0.5mm (max))
pins: 1 +V (power) "Power supply 2V7.. 5V5", 2 T (out) "Temperture/C/ = (V - 0.5V)*100", 3 GND (power) "Ground"

## USBMiniF
designator X?, comment USB-UART-USB Mini F  Device: -USB Mini F
USB mini 6 pin SMD connector  TYCO_1734035-1; Vendor: TYCO; Unit Price: 1; Pckage: TYCO_1734035-1; Value: USB-UART
footprint TYCO_1734035-1 (SMD, Right Angle, 5 Position, Type B, Mini USB Receptacle)
pins: 1 +5V USB, 2 DATA-, 3 DATA+, 4, 5 GND USB, 6 SHIELD

## WF4
designator X?, comment WF4?
4 pin TRH connector 2.54mm pitch; Vendor: Connfly; Pckage: SIP_4- 2.54; Device: WF4; Unit Price: 0.2; Value: ?
footprint SIP_4-254 (2.54mm pitch 4pin M connnector)
pins: 1, 2, 3, 4

## WF5
designator X?
5 pin TRH connector 2.54mm pitch; Vendor: Connfly; Pckage: SIP_5- 2.54; Unit Price: 0.2; Device: WF5
footprint SIP_5-254 (2.54mm pitch 5pin M connnector)
pins: 1, 2, 3, 4, 5

## WF6
designator X?
6 pin TRH connector 2.54mm pitch; Vendor: Connfly; Pckage: SIP_6- 2.54; Unit Price: 0.2; Device: WF6
footprint SIP_6-254 (2.54mm pitch 6pin M connnector)
pins: 1, 2, 3, 4, 5, 6

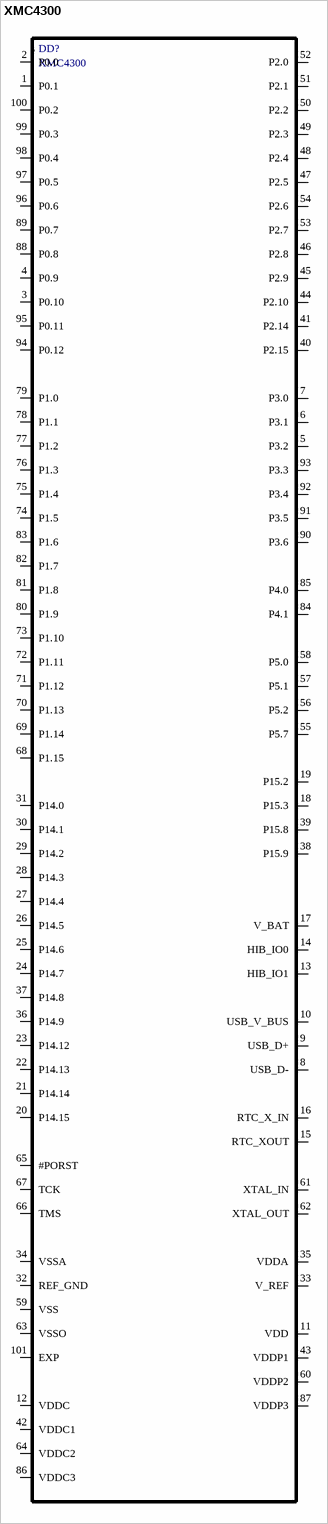
[diagram p5: symbol XMC4300]

## XMC4300
designator DD?
footprint LQFP100-50 (QFP, 0.50mm Pitch, Square; 100 Pin,14.00mm L X 14.00mm W X 1.60mm H Body, IPC Medium Density)
pins: 1 P0.1, 2 P0.0, 3 P0.10, 4 P0.9, 5 P3.2, 6 P3.1, 7 P3.0, 8 USB_D-, 9 USB_D+, 10 USB_V_BUS, 11 VDD, 12 VDDC, 13 HIB_IO1, 14 HIB_IO0, 15 RTC_XOUT, 16 RTC_X_IN, 17 V_BAT, 18 P15.3, 19 P15.2, 20 P14.15, 21 P14.14, 22 P14.13, 23 P14.12, 24 P14.7, 25 P14.6, 26 P14.5, 27 P14.4, 28 P14.3, 29 P14.2, 30 P14.1, 31 P14.0, 32 REF_GND, 33 V_REF, 34 VSSA, 35 VDDA, 36 P14.9, 37 P14.8, 38 P15.9, 39 P15.8, 40 P2.15, 41 P2.14, 42 VDDC1, 43 VDDP1, 44 P2.10, 45 P2.9, 46 P2.8, 47 P2.5, 48 P2.4, 49 P2.3, 50 P2.2, 51 P2.1, 52 P2.0, 53 P2.7, 54 P2.6, 55 P5.7, 56 P5.2, 57 P5.1, 58 P5.0, 59 VSS, 60 VDDP2, 61 XTAL_IN, 62 XTAL_OUT, 63 VSSO, 64 VDDC2, 65 #PORST, 66 TMS, 67 TCK, 68 P1.15, 69 P1.14, 70 P1.13, 71 P1.12, 72 P1.11, 73 P1.10, 74 P1.5, 75 P1.4, 76 P1.3, 77 P1.2, 78 P1.1, 79 P1.0, 80 P1.9, 81 P1.8, 82 P1.7, 83 P1.6, 84 P4.1, 85 P4.0, 86 VDDC3, 87 VDDP3, 88 P0.8, 89 P0.7, 90 P3.6, 91 P3.5, 92 P3.4, 93 P3.3, 94 P0.12, 95 P0.11, 96 P0.6, 97 P0.5, 98 P0.4, 99 P0.3, 100 P0.2, 101 EXP